# Altium schematic symbol library SeniorProject.SchLib: 1 symbol
Pins are listed as number, name and electrical type; pins without a type are passive.

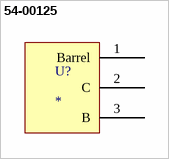
[diagram p0: symbol 54-00125]

## 54-00125
designator U?
3.5x1.1mm Barrel Jack Connector
pins: 1 Barrel, 2 C, 3 B